# Altium schematic symbol library 87833-0419.SchLib: 1 symbol
Pins are listed as number, name and electrical type; pins without a type are passive.

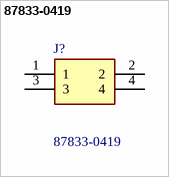
[diagram p0: symbol 87833-0419]

## 87833-0419
designator J?
Headers & Wire Housings MGrid Hdr Shrd RA /Stdf GFLF 4Ckt; Manufacturer_Name: Molex; Geometry.Height: 6.3mm; Mouser Part Number: 538-87833-0419; Mouser Price/Stock: https://www.mouser.co.uk/ProductDetail/Molex/87833-0419?qs=Vr3ZXvgdfhbIBPo%252BhQCZsA%3D%3D; Manufacturer_Part_Number: 87833-0419; Datasheet Link: https://www.molex.com/pdm_docs/sd/878330419_sd.pdf
footprint SHDRRA4W55P200_2X2_665X640X630P
pins: 1, 2, 3, 4